# EAGLE library part DAC8565 (library dac8565)
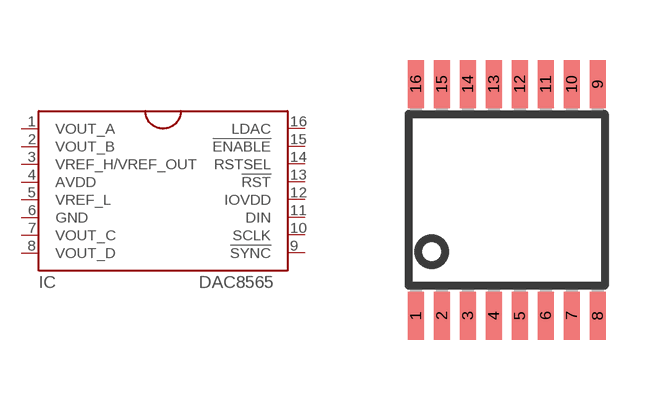
[diagram p0: symbol with the pads of TSSOP-16; footprint TSSOP-16]

Designator prefix IC

## DAC8565  [TSSOP-16]
1  VOUT_A
2  VOUT_B
3  VREF_H/VREF_OUT
4  AVDD
5  VREF_L
6  GND
7  VOUT_C
8  VOUT_D
9  !SYNC!
10  SCLK
11  DIN
12  IOVDD
13  !RST!
14  RSTSEL
15  !ENABLE!
16  LDAC

## Footprint TSSOP-16 (pad centres in mm)
smd 0.4 x 1.2: 1 -2.275,-2.9; 2 -1.625,-2.9; 3 -0.975,-2.9; 4 -0.325,-2.9; 5 0.325,-2.9; 6 0.975,-2.9; 7 1.625,-2.9; 8 2.275,-2.9; 9 2.275,2.9; 10 1.625,2.9; 11 0.975,2.9; 12 0.325,2.9; 13 -0.325,2.9; 14 -0.975,2.9; 15 -1.625,2.9; 16 -2.275,2.9